# Altium schematic symbol library Richtek, RT2862xSP.SchLib: 1 symbol
Pins are listed as number, name and electrical type; pins without a type are passive.

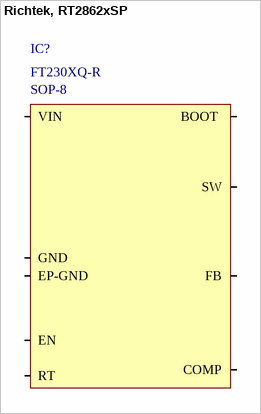
[diagram p0: symbol Richtek, RT2862xSP]

## Richtek, RT2862xSP
designator IC?  Manufacturer Part number: FT230XQ-R  Package: SOP-8  (hidden comment: *)
IC,Interface,FTDI,QFN16; component category: capacitor*; ComponentLink1Description: datasheet; ComponentLink1URL: *; ComponentLink2Description: supplier link; ComponentLink2URL: *; component type: ceramic; supplier link: *; supplier currency: *; price,max: *; price,min: *; Quantity,max: *; Quantity,min: *; Operating Temparature,max: +85; Operating Temparature,min: -40; Supplier Part number: *; Supplier: Digikey; Manufacturer: FTDI
footprint Richtek, RT2862xSP,SOP-8
pins: 1-SW SW, 2-BOOT BOOT , 3-EN EN, 4-GND GND, 5-FB FB, 6-COMP COMP, 7-RT RT, 8-VIN VIN, EP-GND